# EAGLE library part XCS05P100 (library XILINX)
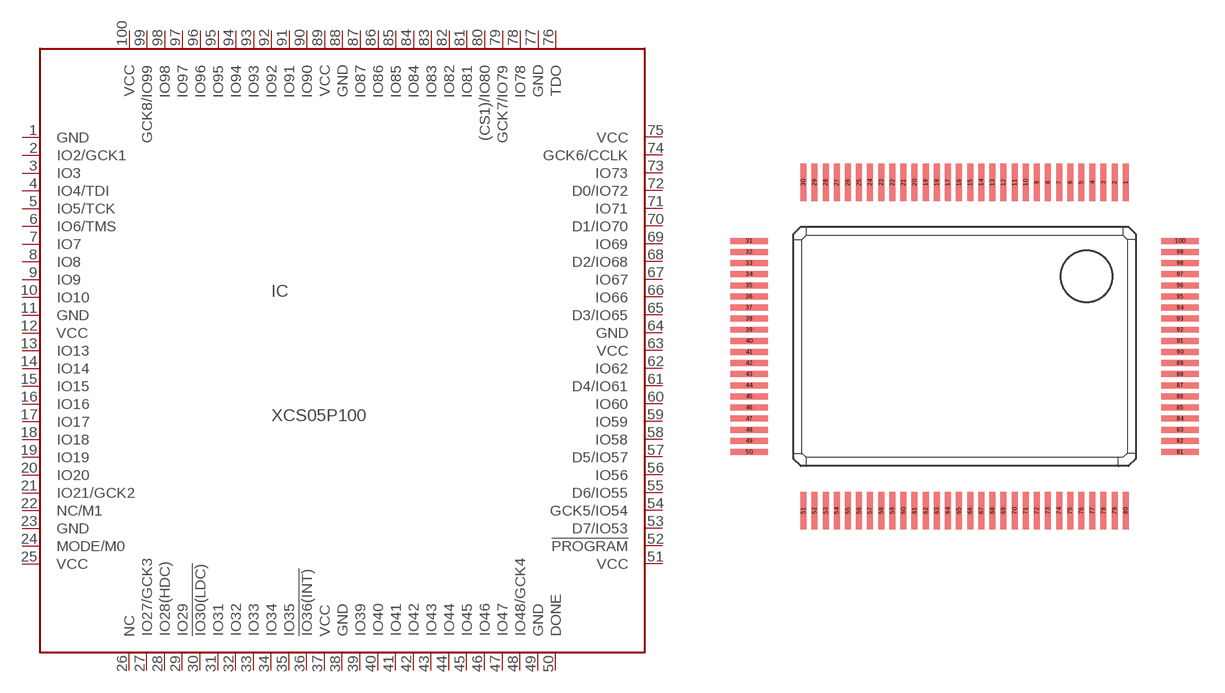
[diagram p7: symbol with the pads of PQ100; footprint PQ100]

Designator prefix IC

## XCS05P100  [PQ100]
1  GND  pwr
2  IO2/GCK1
3  IO3
4  IO4/TDI
5  IO5/TCK
6  IO6/TMS
7  IO7
8  IO8
9  IO9
10  IO10
11  GND  pwr
12  VCC  pwr
13  IO13
14  IO14
15  IO15
16  IO16
17  IO17
18  IO18
19  IO19
20  IO20
21  IO21/GCK2
22  NC/M1  nc
23  GND  pwr
24  MODE/M0  in
25  VCC  pwr
26  NC1  nc
27  IO27/GCK3
28  IO28(HDC)
29  IO29
30  !IO30(LDC)
31  IO31
32  IO32
33  IO33
34  IO34
35  IO35
36  !IO36(INT)
37  VCC  pwr
38  GND  pwr
39  IO39
40  IO40
41  IO41
42  IO42
43  IO43
44  IO44
45  IO45
46  IO46
47  IO47
48  IO48/GCK4
49  GND  pwr
50  DONE  out
51  VCC  pwr
52  !PROGRAM  in
53  D7/IO53
54  GCK5/IO54
55  D6/IO55
56  IO56
57  D5/IO57
58  IO58
59  IO59
60  IO60
61  D4/IO61
62  IO62
63  VCC  pwr
64  GND  pwr
65  D3/IO65
66  IO66
67  IO67
68  D2/IO68
69  IO69
70  D1/IO70
71  IO71
72  D0/IO72
73  IO73
74  GCK6/CCLK  in
75  VCC  pwr
76  TDO  out
77  GND  pwr
78  IO78
79  GCK7/IO79
80  (CS1)/IO80
81  IO81
82  IO82
83  IO83
84  IO84
85  IO85
86  IO86
87  IO87
88  GND  pwr
89  VCC  pwr
90  IO90
91  IO91
92  IO92
93  IO93
94  IO94
95  IO95
96  IO96
97  IO97
98  IO98
99  GCK8/IO99
100  VCC  pwr

## Footprint PQ100 (pad centres in mm)
smd 0.35 x 2.2: 1 9.425,9.6; 2 8.775,9.6; 3 8.125,9.6; 4 7.475,9.6; 5 6.825,9.6; 6 6.175,9.6; 7 5.525,9.6; 8 4.875,9.6; 9 4.225,9.6; 10 3.575,9.6; 11 2.925,9.6; 12 2.275,9.6; 13 1.625,9.6; 14 0.975,9.6; 15 0.325,9.6; 16 -0.325,9.6; 17 -0.975,9.6; 18 -1.625,9.6; 19 -2.275,9.6; 20 -2.925,9.6; 21 -3.575,9.6; 22 -4.225,9.6; 23 -4.875,9.6; 24 -5.525,9.6; 25 -6.175,9.6; 26 -6.825,9.6; 27 -7.475,9.6; 28 -8.125,9.6; 29 -8.775,9.6; 30 -9.425,9.6; 51 -9.425,-9.6; 52 -8.775,-9.6; 53 -8.125,-9.6; 54 -7.475,-9.6; 55 -6.825,-9.6; 56 -6.175,-9.6; 57 -5.525,-9.6; 58 -4.875,-9.6; 59 -4.225,-9.6; 60 -3.575,-9.6; 61 -2.925,-9.6; 62 -2.275,-9.6; 63 -1.625,-9.6; 64 -0.975,-9.6; 65 -0.325,-9.6; 66 0.325,-9.6; 67 0.975,-9.6; 68 1.625,-9.6; 69 2.275,-9.6; 70 2.925,-9.6; 71 3.575,-9.6; 72 4.225,-9.6; 73 4.875,-9.6; 74 5.525,-9.6; 75 6.175,-9.6; 76 6.825,-9.6; 77 7.475,-9.6; 78 8.125,-9.6; 79 8.775,-9.6; 80 9.425,-9.6
smd 2.2 x 0.35: 31 -12.6,6.175; 32 -12.6,5.525; 33 -12.6,4.875; 34 -12.6,4.225; 35 -12.6,3.575; 36 -12.6,2.925; 37 -12.6,2.275; 38 -12.6,1.625; 39 -12.6,0.975; 40 -12.6,0.325; 41 -12.6,-0.325; 42 -12.6,-0.975; 43 -12.6,-1.625; 44 -12.6,-2.275; 45 -12.6,-2.925; 46 -12.6,-3.575; 47 -12.6,-4.225; 48 -12.6,-4.875; 49 -12.6,-5.525; 50 -12.6,-6.175; 81 12.6,-6.175; 82 12.6,-5.525; 83 12.6,-4.875; 84 12.6,-4.225; 85 12.6,-3.575; 86 12.6,-2.925; 87 12.6,-2.275; 88 12.6,-1.625; 89 12.6,-0.975; 90 12.6,-0.325; 91 12.6,0.325; 92 12.6,0.975; 93 12.6,1.625; 94 12.6,2.275; 95 12.6,2.925; 96 12.6,3.575; 97 12.6,4.225; 98 12.6,4.875; 99 12.6,5.525; 100 12.6,6.175